# EAGLE library part LMV339 (library barthess)
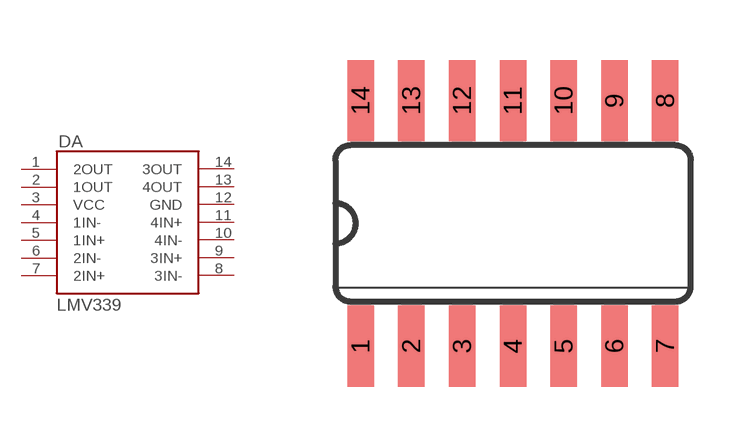
[diagram p0: symbol with the pads of SO14; footprint SO14]

Designator prefix DA

## LMV339ID  [SO14]
1  2OUT  out
2  1OUT  out
3  VCC  pwr
4  1IN-  in
5  1IN+  in
6  2IN-  in
7  2IN+  in
8  3IN-  in
9  3IN+  in
10  4IN-  in
11  4IN+  in
12  GND  pwr
13  4OUT  out
14  3OUT  out

## Footprint SO14 (pad centres in mm)
Small Outline package 150 mil
smd 0.66 x 2.032: 1 -3.81,-3.073; 2 -2.54,-3.073; 3 -1.27,-3.073; 4 0,-3.073; 5 1.27,-3.073; 6 2.54,-3.073; 7 3.81,-3.073; 8 3.81,3.073; 9 2.54,3.073; 10 1.27,3.073; 11 0,3.073; 12 -1.27,3.073; 13 -2.54,3.073; 14 -3.81,3.073